# Altium schematic symbol library IC_SWPSU.SchLib: 15 symbols
Pins are listed as number, name and electrical type; pins without a type are passive.

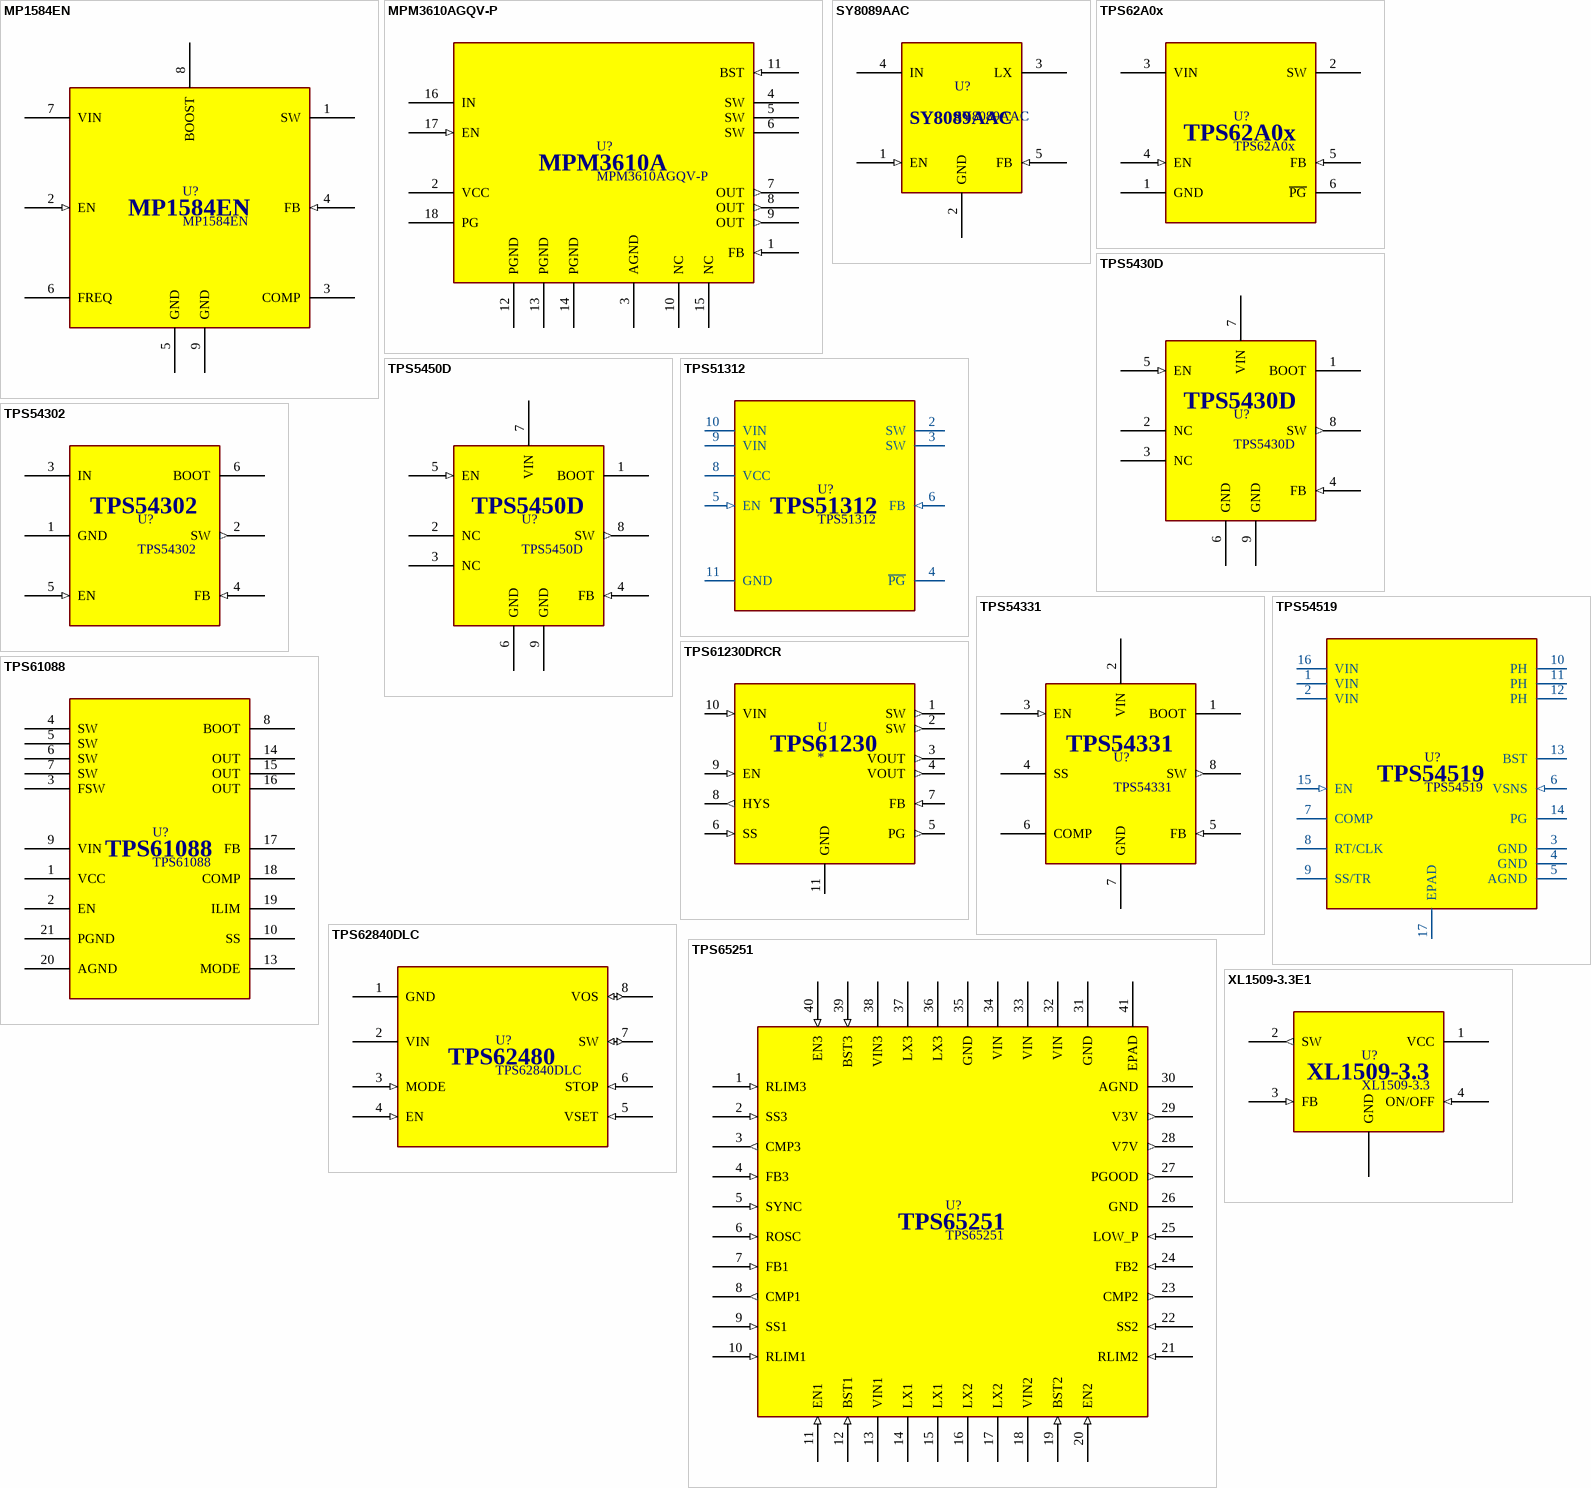
[diagram p0: symbols MP1584EN to XL1509-3.3E1]

## MP1584EN
designator U?
High frequency step-down / switching regulator with an integrated internal / high-side high voltage power MOSFET.
footprint SOIC8-3.9x4.9-P1.27-PadVia
pins: 1 SW, 2 EN (in), 3 COMP, 4 FB (in), 5 GND (power), 6 FREQ, 7 VIN (power), 8 BOOST, 9 GND (power)

## MPM3610AGQV-P
designator U?
21V/1.2A DC/DC Module Synchronous Step-Down Converter with Integrated Inductor.
pins: 1 FB (in), 2 VCC (power), 3 AGND (power), 4 SW (power), 5 SW (power), 6 SW (power), 7 OUT (out), 8 OUT (out), 9 OUT (out), 10 NC (power), 11 BST (in), 12 PGND (power), 13 PGND (power), 14 PGND (power), 15 NC (power), 16 IN (power), 17 EN (in), 18 PG (power)
text: MPM3610A

## SY8089AAC
designator U?
High Efficiency 5.5V, 2A continuous, 3A peak, 1MHz Synchronous Step Down Regulator; MPN: *; LCSC: *
footprint SOT23-5
pins: 1 EN (in), 2 GND (power), 3 LX, 4 IN (power), 5 FB (in)

## TPS62A0x
designator U?
TPS62A0x and TPS62A0xA, 1-A and 2-A High-Efficiency Synchronous Buck / Converters in a SOT-563 Package
footprint SOT563
pins: 1 GND (power), 2 SW, 3 VIN (power), 4 EN (in), 5 FB (in), 6 ~{PG} (oc)

## TPS5430D
designator U?
3A Step Down DC-DC Converter
footprint SOIC8-3.9x4.9-P1.27-PadVia
pins: 1 BOOT, 2 NC, 3 NC, 4 FB (in), 5 EN (in), 6 GND (power), 7 VIN (power), 8 SW (out), 9 GND (power)

## TPS5450D
designator U?
5A Step Down DC-DC Converter
footprint SOIC8-3.9x4.9-P1.27-PadVia
pins: 1 BOOT, 2 NC, 3 NC, 4 FB (in), 5 EN (in), 6 GND (power), 7 VIN (power), 8 SW (out), 9 GND (power)

## TPS51312
designator U?
3.1-V to 5.5-V Input, 3-A Output, Synchronous, Step-Down Regulator with Integrated FETs; MPN: *; LCSC: *
footprint VSON10_3x3_P0.5
pins: 2 SW, 3 SW, 4 ~{PG}, 5 EN (in), 6 FB (in), 8 VCC (power), 9 VIN (power), 10 VIN (power), 11 GND

## TPS54302
designator U?
3A Step Down DC-DC Converter SOT23-6
footprint SOT23-6
pins: 1 GND (power), 2 SW (out), 3 IN (power), 4 FB (in), 5 EN (in), 6 BOOT

## TPS54331
designator U?
3A, 28V Input, Step Down DC-DC Converter With Eco-mode
footprint SOIC8-3.9x4.9-P1.27-PadVia
pins: 1 BOOT, 2 VIN (power), 3 EN (in), 4 SS, 5 FB (in), 6 COMP (power), 7 GND (power), 8 SW (out)

## TPS54519
designator U?
2.95 V to 6 V Input, 5-A Synchronous Step Down SWIFT™ Converter; MPN: *; LCSC: *
footprint QFN16-3x3-P0.5
pins: 1 VIN (power), 2 VIN (power), 3 GND (power), 4 GND (power), 5 AGND (power), 6 VSNS (in), 7 COMP, 8 RT/CLK, 9 SS/TR, 10 PH, 11 PH, 12 PH, 13 BST, 14 PG (oc), 15 EN (in), 16 VIN (power), 17 EPAD

## TPS61088
designator U?
TPS61088 10-A Fully-Integrated Synchronous Boost Converter; MPN: *; LCSC: *
pins: 1 VCC, 2 EN, 3 FSW, 4 SW, 5 SW, 6 SW, 7 SW, 8 BOOT, 9 VIN, 10 SS, 13 MODE, 14 OUT, 15 OUT, 16 OUT, 17 FB, 18 COMP, 19 ILIM, 20 AGND, 21 PGND

## TPS61230DRCR
designator U
High Efficiency Synchronous Boost Converter With 5-A Switch 10-VSON -40 to 85; MPN: *; LCSC: *
footprint VSON10_3x3_P0.5
pins: 1 SW (out), 2 SW (out), 3 VOUT (out), 4 VOUT (out), 5 PG (out), 6 SS (in), 7 FB (in), 8 HYS (out), 9 EN (in), 10 VIN (in), 11 GND (power)
text: TPS61230

## TPS62840DLC
designator U?
1.8-V to 6.5-V, 750-mA, 60-nA IQ Step-Down Converter.
pins: 1 GND (power), 2 VIN (power), 3 MODE (in), 4 EN (in), 5 VSET (in), 6 STOP (in), 7 SW (io), 8 VOS (io)
text: TPS62480

## TPS65251
designator U?
TPS65251 4.5-V to 18-V Input, High-Current, Synchronous Step-Down Three Buck / Switcher With Integrated FET.; MPN: *; LCSC: *
footprint QFN40-6x6-P0.5
pins: 1 RLIM3 (in), 2 SS3 (in), 3 CMP3 (out), 4 FB3 (in), 5 SYNC (in), 6 ROSC (in), 7 FB1 (in), 8 CMP1 (out), 9 SS1 (in), 10 RLIM1 (in), 11 EN1 (in), 12 BST1 (in), 13 VIN1 (power), 14 LX1, 15 LX1, 16 LX2, 17 LX2, 18 VIN2 (power), 19 BST2 (in), 20 EN2 (in), 21 RLIM2 (in), 22 SS2 (in), 23 CMP2 (out), 24 FB2 (in), 25 LOW_P (in), 26 GND (power), 27 PGOOD (out), 28 V7V (out), 29 V3V (out), 30 AGND (power), 31 GND (power), 32 VIN (power), 33 VIN (power), 34 VIN (power), 35 GND (power), 36 LX3, 37 LX3, 38 VIN3 (power), 39 BST3 (in), 40 EN3 (in), 41 EPAD (power)

## XL1509-3.3E1
designator U?, comment XL1509-3.3
2A 150KHz 40V Buck DC to DC Converter.
footprint SOIC8-3.9x4.9-P1.27
pins: 1 VCC (power), 2 SW (out), 3 FB (in), 4 ON/OFF (in), [5..8] GND